# EAGLE library part VOLVO_CONN_31 (library digital_dash)
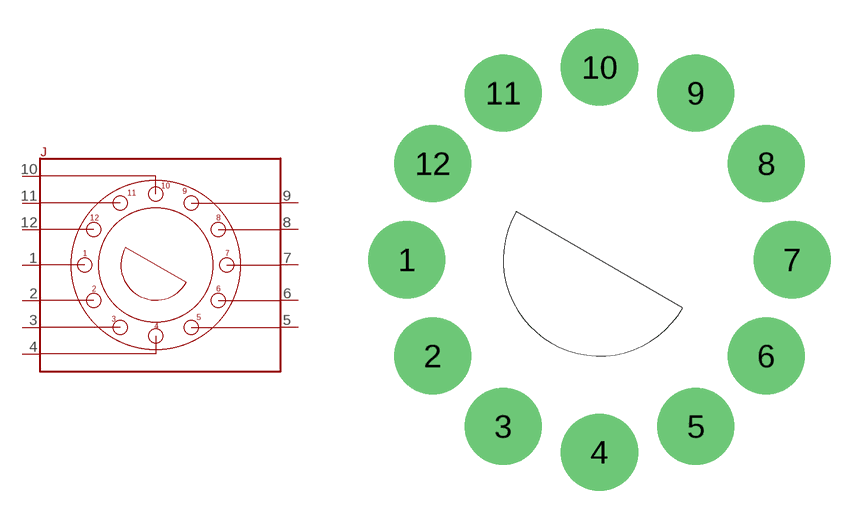
[diagram p5: symbol with the pads of VOLVO_CON_31; footprint VOLVO_CON_31]

Designator prefix J

## VOLVO_CONN_31  [VOLVO_CON_31]
1  1
2  2
3  3
4  4
5  5
6  6
7  7
8  8
9  9
10  10
11  11
12  12

## Footprint VOLVO_CON_31 (pad centres in mm)
drill 2.134 pad 4: 1 -10,0; 2 -8.66,-5; 3 -5,-8.66; 4 0,-10; 5 5,-8.66; 6 8.66,-5; 7 10,0; 8 8.66,5; 9 5,8.66; 10 0,10; 11 -5,8.66; 12 -8.66,5